# Altium footprint library LPON_CAP.PcbLib: 108 footprints (part 6 of 7)
Each footprint in its own frame and in the unit in brackets; x right, y up, seen from the top. Pads: shape width x height; smd on the part's side, far side on the other; paste and mask are expansions set on the pad; w line width, h text height; cw(c..) or ccw(c..) is an arc to the next point about the centre after c.
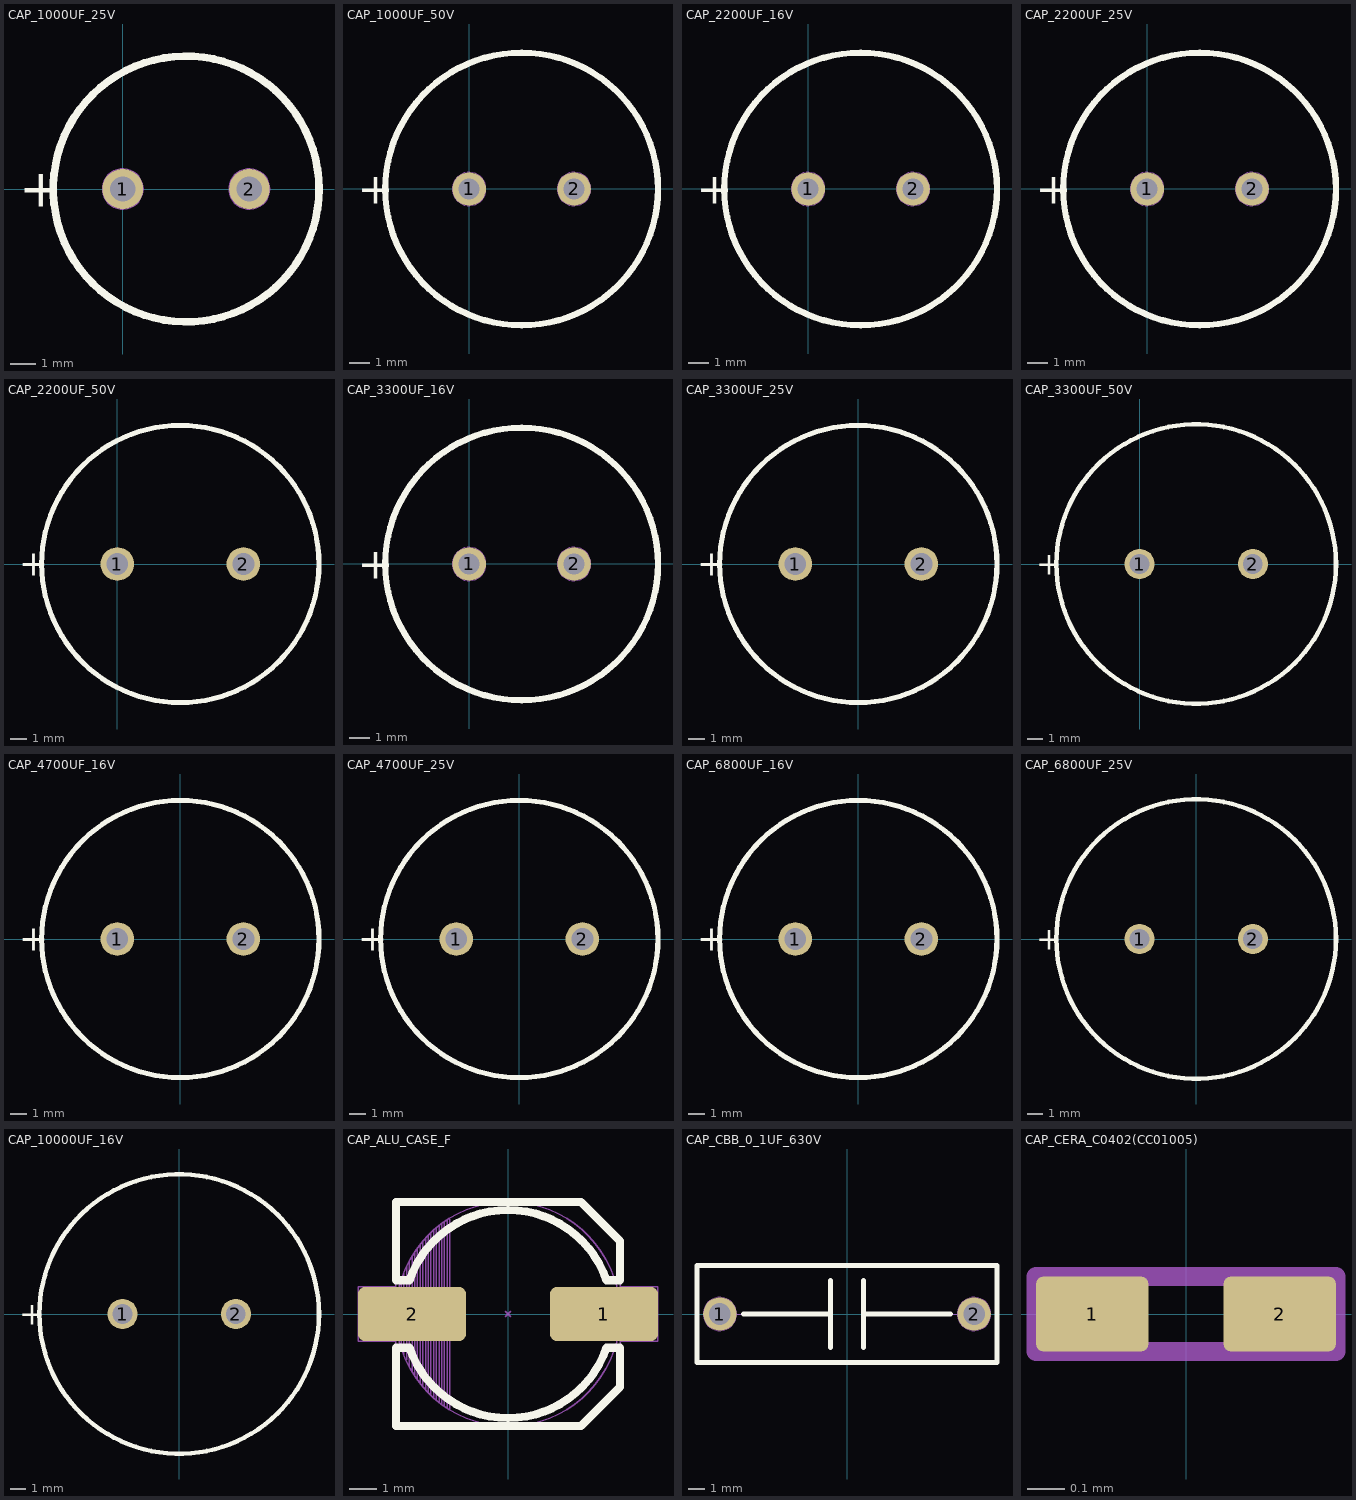
[diagram p5: the footprints below, top view; thin cyan lines are the x and y axes]

## CAP_1000UF_25V [mm] "Capacitor, Electrolytic, Radial; Body 10 x 20 mm (Dia.xH typ); Pin Spacing 5 mm (typ)"
height 22
pads (2):
  round 1.6 hole 1: 1(0,0) 2(5,0)
Top Overlay:
  circle w0.3: c2.5,0 r5.25
  text "+" at -4.1,-0.7 h1.5
Mechanical 1:
  circle w0.05: c5,0 r0.8
  circle w0.05: c0,0 r0.8
  circle w0.05: c2.5,0 r5.25
  text "+" at -2.2,-0.7 h1.5
  text "1" at -0.2,-0.6 h1.2
  text "2" at 4.7,-0.6 h1.2
3D body "Cap Polar 10x16.STEP": height 16.53, standoff -3.74, extent -2.525,-5.025 7.525,5.025

## CAP_1000UF_50V [mm] "Capacitor, Electrolytic, Radial; Body 12.5 x 25 mm (Dia.xH typ); Pin Spacing 5 mm (typ)"
height 27
pads (2):
  round 1.6 hole 1: 1(0,0) 2(5,0)
Top Overlay:
  circle w0.3: c2.5,0 r6.5
  text "+" at -5.3,-0.7 h1.5
Mechanical 1:
  circle w0.05: c5,0 r0.8
  circle w0.05: c0,0 r0.8
  circle w0.05: c2.5,0 r6.5
  text "+" at -2.9,-0.7 h1.5
  text "1" at -0.2,-0.6 h1.2
  text "2" at 4.7,-0.6 h1.2

## CAP_2200UF_16V [mm] "Capacitor, Electrolytic, Radial; Body 12.5 x 20 mm (Dia.xH typ); Pin Spacing 5 mm (typ)"
height 22
pads (2):
  round 1.6 hole 1: 1(0,0) 2(5,0)
Top Overlay:
  circle w0.3: c2.5,0 r6.5
  text "+" at -5.3,-0.7 h1.5
Mechanical 1:
  circle w0.05: c2.5,0 r6.5
  circle w0.05: c0,0 r0.8
  circle w0.05: c5,0 r0.8
  text "2" at 4.7,-0.6 h1.2
  text "1" at -0.2,-0.6 h1.2
  text "+" at -2.9,-0.7 h1.5

## CAP_2200UF_25V [mm] "Capacitor, Electrolytic, Radial; Body 12.5 x 25 mm (Dia.xH typ); Pin Spacing 5 mm (typ)"
height 27
pads (2):
  round 1.6 hole 1: 1(0,0) 2(5,0)
Top Overlay:
  circle w0.3: c2.5,0 r6.5
  text "+" at -5.3,-0.7 h1.5
Mechanical 1:
  circle w0.05: c2.5,0 r6.5
  circle w0.05: c0,0 r0.8
  circle w0.05: c5,0 r0.8
  text "2" at 4.7,-0.6 h1.2
  text "1" at -0.2,-0.6 h1.2
  text "+" at -2.9,-0.7 h1.5

## CAP_2200UF_50V [mm] "Capacitor, Electrolytic, Radial; Body 16 x 31.5 mm (Dia.xH typ); Pin Spacing 7.5 mm (typ)"
height 33.5
pads (2):
  round 2 hole 1.3: 1(0,0) 2(7.5,0)
Top Overlay:
  circle w0.3: c3.75,0 r8.25
  text "+" at -5.85,-0.7 h1.5
Mechanical 1:
  circle w0.05: c3.75,0 r8.25
  circle w0.05: c0,0 r0.8
  circle w0.05: c7.5,0 r0.8
  text "2" at 7.2,-0.6 h1.2
  text "1" at -0.2,-0.6 h1.2
  text "+" at -3.25,-0.7 h1.5

## CAP_3300UF_16V [mm] "Capacitor, Electrolytic, Radial; Body 12.5 x 25 mm (Dia.xH typ); Pin Spacing 5 mm (typ)"
height 27
pads (2):
  round 1.6 hole 1: 1(0,0) 2(5,0)
Top Overlay:
  circle w0.3: c2.5,0 r6.5
  text "+" at -5.3,-0.7 h1.5
Mechanical 1:
  circle w0.05: c2.5,0 r6.5
  circle w0.05: c0,0 r0.8
  circle w0.05: c5,0 r0.8
  text "2" at 4.7,-0.6 h1.2
  text "1" at -0.2,-0.6 h1.2
  text "+" at -2.9,-0.7 h1.5

## CAP_3300UF_25V [mm] "Capacitor, Electrolytic, Radial; Body 16 x 25 mm (Dia.xH typ); Pin Spacing 7.5 mm (typ)"
height 27
pads (2):
  round 2 hole 1.3: 1(-3.75,0) 2(3.75,0)
Top Overlay:
  circle w0.3: c0,0 r8.25
  text "+" at -9.6,-0.7 h1.5
Mechanical 1:
  circle w0.05: c0,0 r8.25
  circle w0.05: c-3.75,0 r0.8
  circle w0.05: c3.75,0 r0.8
  text "2" at 3.45,-0.6 h1.2
  text "1" at -3.95,-0.6 h1.2
  text "+" at -7,-0.7 h1.5

## CAP_3300UF_50V [mm] "Capacitor, Electrolytic, Radial; Body 18 x 35.5 mm (Dia.xH typ); Pin Spacing 7.5 mm (typ)"
height 37.5
pads (2):
  round 2 hole 1.3: 1(0,0) 2(7.5,0)
Top Overlay:
  circle w0.3: c3.75,0 r9.25
  text "+" at -6.85,-0.7 h1.5
Mechanical 1:
  circle w0.05: c7.5,0 r0.8
  circle w0.05: c0,0 r0.8
  circle w0.05: c3.75,0 r9.25
  text "+" at -3.75,-0.7 h1.5
  text "1" at -0.2,-0.6 h1.2
  text "2" at 7.2,-0.6 h1.2

## CAP_4700UF_16V [mm] "Capacitor, Electrolytic, Radial; Body 16 x 25 mm (Dia.xH typ); Pin Spacing 7.5 mm (typ)"
height 27
pads (2):
  round 2 hole 1.3: 1(-3.75,0) 2(3.75,0)
Top Overlay:
  circle w0.3: c0,0 r8.25
  text "+" at -9.6,-0.7 h1.5
Mechanical 1:
  circle w0.05: c0,0 r8.25
  circle w0.05: c-3.75,0 r0.8
  circle w0.05: c3.75,0 r0.8
  text "2" at 3.45,-0.6 h1.2
  text "1" at -3.95,-0.6 h1.2
  text "+" at -7,-0.7 h1.5

## CAP_4700UF_25V [mm] "Capacitor, Electrolytic, Radial; Body 16 x 31.5 mm (Dia.xH typ); Pin Spacing 7.5 mm (typ)"
height 33.5
pads (2):
  round 2 hole 1.3: 1(-3.75,0) 2(3.75,0)
Top Overlay:
  circle w0.3: c0,0 r8.25
  text "+" at -9.6,-0.7 h1.5
Mechanical 1:
  circle w0.05: c0,0 r8.25
  circle w0.05: c-3.75,0 r0.8
  circle w0.05: c3.75,0 r0.8
  text "2" at 3.45,-0.6 h1.2
  text "1" at -3.95,-0.6 h1.2
  text "+" at -7,-0.7 h1.5

## CAP_6800UF_16V [mm] "Capacitor, Electrolytic, Radial; Body 16 x 31.5 mm (Dia.xH typ); Pin Spacing 7.5 mm (typ)"
height 33.5
pads (2):
  round 2 hole 1.3: 1(-3.75,0) 2(3.75,0)
Top Overlay:
  circle w0.3: c0,0 r8.25
  text "+" at -9.6,-0.7 h1.5
Mechanical 1:
  circle w0.05: c3.75,0 r0.8
  circle w0.05: c-3.75,0 r0.8
  circle w0.05: c0,0 r8.25
  text "+" at -7,-0.7 h1.5
  text "1" at -3.95,-0.6 h1.2
  text "2" at 3.45,-0.6 h1.2

## CAP_6800UF_25V [mm] "Capacitor, Electrolytic, Radial; Body 18 x 35.5 mm (Dia.xH typ); Pin Spacing 7.5 mm (typ)"
height 37.5
pads (2):
  round 2 hole 1.3: 1(-3.75,0) 2(3.75,0)
Top Overlay:
  circle w0.3: c0,0 r9.25
  text "+" at -10.6,-0.7 h1.5
Mechanical 1:
  circle w0.05: c3.75,0 r0.8
  circle w0.05: c-3.75,0 r0.8
  circle w0.05: c0,0 r9.25
  text "+" at -7,-0.7 h1.5
  text "1" at -3.95,-0.6 h1.2
  text "2" at 3.45,-0.6 h1.2

## CAP_10000UF_16V [mm] "Capacitor, Electrolytic, Radial; Body 18 x 35.5 mm (Dia.xH typ); Pin Spacing 7.5 mm (typ)"
height 37.5
pads (2):
  round 2 hole 1.3: 1(-3.75,0) 2(3.75,0)
Top Overlay:
  circle w0.3: c0,0 r9.25
  text "+" at -10.6,-0.7 h1.5
Mechanical 1:
  circle w0.05: c3.75,0 r0.8
  circle w0.05: c-3.75,0 r0.8
  circle w0.05: c0,0 r9.25
  text "+" at -7,-0.7 h1.5
  text "1" at -3.95,-0.6 h1.2
  text "2" at 3.45,-0.6 h1.2

## CAP_ALU_CASE_F [mm]
pads (2):
  rrect25% 4x2 smd mask+0.1: 1(3.55,0) 2(-3.55,0)
Top Overlay:
  lines w0.3: -3.645,-1.25 -4.15,-1.25 -4.15,-4.15 2.7,-4.15 4.15,-2.7 4.15,-1.25 3.645,-1.25 ; -3.645,1.25 -4.15,1.25 -4.15,4.15 2.7,4.15 4.15,2.7 4.15,1.25 3.645,1.25 ; -3.642,-1.247 ccw(c0,0) 3.642,-1.247 ; -3.642,1.247 cw(c0,0) 3.642,1.247
Mechanical 2:
  circle w0.05: c0,0 r4.15
  lines w0.05: -4.15,-1 -5.55,-1 -5.55,1 -4.15,1 ; -4.05,-0.85 -4.05,0.8 ; -3.95,-1.2 -3.95,1.2 ; -3.85,-1.5 -3.85,1.5 ; -3.75,-1.7 -3.75,1.75 ; -3.65,-1.95 -3.65,1.95 ; -3.55,-2.1 -3.55,2.1 ; -3.45,-2.25 -3.45,2.25 ; -3.35,-2.4 -3.35,2.4 ; -3.25,-2.55 -3.25,2.55 ; -3.15,-2.65 -3.15,2.65 ; -3.05,-2.8 -3.05,2.8 ; -2.95,-2.9 -2.95,2.9 ; -2.85,-3 -2.85,3 ; -2.75,-3.1 -2.75,3.1 ; -2.65,-3.15 -2.65,3.15 ; -2.55,-3.25 -2.55,3.25 ; -2.45,-3.35 -2.45,3.35 ; -2.35,-3.4 -2.35,3.4 ; -2.25,-3.45 -2.25,3.45 ; -2.15,-3.55 -2.15,3.5 ; -0.1,-0.1 0.1,0.1 ; -0.1,0.1 0.1,-0.1 ; 4.15,-1 5.55,-1 5.55,1 4.15,1 ; 4.75,0 5.05,0 ; 4.9,-0.15 4.9,0.15 ; -4.15,-4.15 2.7,-4.15 4.15,-2.7 4.15,2.7 2.7,4.15 -4.15,4.15 -4.15,-4.15
3D body "User Library-ALU-F.STEP": height 10.2, standoff 0, extent -4.95,-4.15 4.95,4.15

## CAP_CBB_0_1UF_630V [mm] "Tu loc gom nau CBB22 104 630V"
height 2.54
pads (2):
  round 2 hole 1.3: 1(-7.62,0) 2(7.62,0)
Top Overlay:
  lines w0.3: -6.2,0 -1,0 ; -1,-2 -1,2 ; 1,-2 1,2 ; 1,0 6.2,0 ; -8.992,-2.921 -8.992,2.921 8.992,2.921 8.992,-2.921 -8.992,-2.921
Mechanical 1:
  circle w0.05: c-7.62,0 r1
  circle w0.05: c7.62,0 r1
  lines w0.05: -6.62,0 -1,0 ; -1,-2 -1,2 ; 1,-2 1,2 ; 1,0 6.63,0 ; -8.992,-2.921 -8.992,2.921 8.992,2.921 8.992,-2.921 -8.992,-2.921
3D body "User Library-RAD CAP 18_5MM.STEP": height 17.16, standoff -9.33, extent -9.25,-3.429 9.25,3.371

## CAP_CERA_C0402(CC01005) [mm] "Ceramic Chip Capacitor, Body 04x02mm, C0402 (CC01005)"
pads (2):
  rrect20% 0.3x0.2 smd mask+0.05: 1(-0.25,0) 2(0.25,0)
Mechanical 2:
  lines w0.05: -0.2,-0.1 0.2,-0.1 ; -0.2,-0.1 -0.2,0.1 ; -0.2,-0.1 -0.4,-0.1 -0.4,0.1 -0.2,0.1 ; -0.2,0.1 0.2,0.1 ; 0.2,-0.1 0.2,0.1 ; 0.2,-0.1 0.4,-0.1 0.4,0.1 0.2,0.1